# Altium schematic symbol library Opto.SchLib: 4 symbols
Pins are listed as number, name and electrical type; pins without a type are passive.

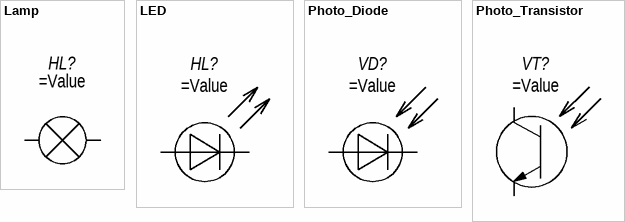
[diagram p0: symbols Lamp to Photo_Transistor]

## Lamp
designator HL?  (value not drawn)
HelpURL: *; Manufacturer: *; Value: =Value
pins: 1, 2

## LED
designator HL?  (value not drawn)
HelpURL: *; Manufacturer: *; Value: =Value
footprint LED_5mm_Clear (Single LED, Pinch 2.54mm, Size 5mm)
footprint LED_5mm_Green (Single LED, Pinch 2.54mm, Size 5mm)
footprint LED_5mm_Red (Single LED, Pinch 2.54mm, Size 5mm)
footprint LED_5mm_Yellow (Single LED, Pinch 2.54mm, Size 5mm)
footprint KP-2012; pin to pad 1>2 2>1
pins: 1, 2

## Photo_Diode
designator VD?  (value not drawn)
HelpURL: *; Manufacturer: *; Value: =Value
pins: 1, 2

## Photo_Transistor
designator VT?  (value not drawn)
HelpURL: *; Manufacturer: *; Value: =Value
footprint LED_5mm_Clear (Single LED, Pinch 2.54mm, Size 5mm); pin to pad C>2 E>1
footprint KP-2012; pin to pad C>2 E>1
pins: C, E